# EAGLE library part 613018243121 (library Wuerth_Elektronik_eiCan_Pin_&_Socked_Headers_v1.3)
WR-PHD Angled Dual Socket Header, 18 Pins
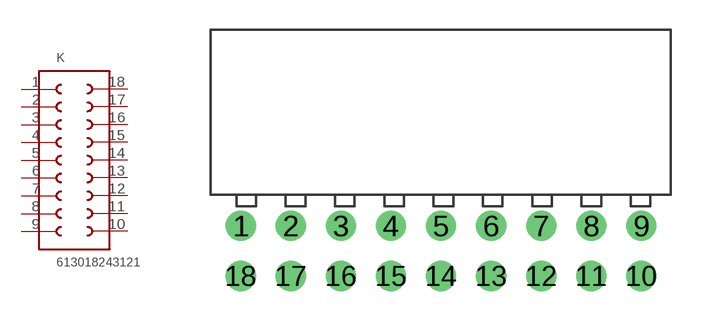
[diagram p172: symbol with the pads of 613018243121; footprint 613018243121]

Designator prefix K

## 613018243121  [613018243121]
1  1  pas
2  2  pas
3  3  pas
4  4  pas
5  5  pas
6  6  pas
7  7  pas
8  8  pas
9  9  pas
10  10  pas
11  11  pas
12  12  pas
13  13  pas
14  14  pas
15  15  pas
16  16  pas
17  17  pas
18  18  pas

## Footprint 613018243121 (pad centres in mm)
WR-PHD Angled Dual Socket Header, 18 Pins
drill 1.02 round: 1 -17.78,0; 2 -15.24,0; 3 -12.7,0; 4 -10.16,0; 5 -7.62,0; 6 -5.08,0; 7 -2.54,0; 8 0,0; 9 2.54,0; 10 2.54,-2.54; 11 0,-2.54; 12 -2.54,-2.54; 13 -5.08,-2.54; 14 -7.62,-2.54; 15 -10.16,-2.54; 16 -12.7,-2.54; 17 -15.24,-2.54; 18 -17.78,-2.54